# EAGLE library part LM5100 (library open-bldc)
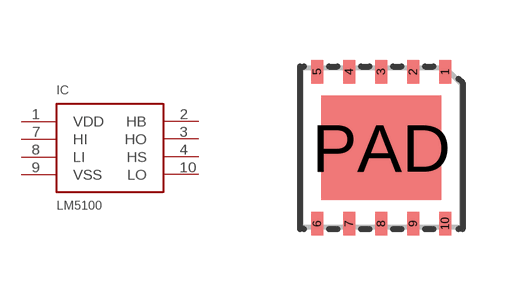
[diagram p16: symbol with the pads of LLP-10; footprint LLP-10]

Designator prefix IC

## LM5100  [LLP-10]
1  VDD
2  HB
3  HO
4  HS
7  HI
8  LI
9  VSS
10  LO

## Footprint LLP-10 (pad centres in mm)
smd 0.3 x 0.6: 1 1.6,1.9; 2 0.8,1.9; 3 0,1.9; 4 -0.8,1.9; 5 -1.6,1.9; 6 -1.6,-1.9; 7 -0.8,-1.9; 8 0,-1.9; 9 0.8,-1.9; 10 1.6,-1.9
smd 3 x 2.6: PAD 0,0